# EAGLE library part MAPS-011007-TR0500 (library My_Library_RADAR)
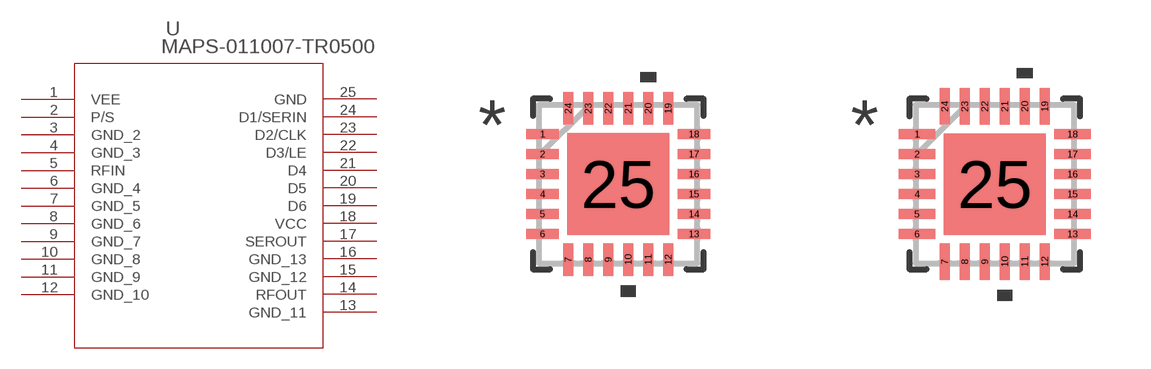
[diagram p15: symbol with the pads of PQFN24_4MM_MCM; footprints PQFN24_4MM_MCM, PQFN24_4MM_MCM-M]

Designator prefix U

## MAPS-011007-TR0500 (COPYRIGHT: Copyright (C) 2025 Ultra Librarian. All rights reserved.; MANUFACTURER_PART_NUMBER: MAPS-011007-TR0500; MFR_NAME: MACOM; TYPE: RF)  [PQFN24_4MM_MCM]
1  VEE  pwr
2  P/S  pas
3  GND_2  pas
4  GND_3  pas
5  RFIN  in
6  GND_4  pas
7  GND_5  pas
8  GND_6  pas
9  GND_7  pas
10  GND_8  pas
11  GND_9  pas
12  GND_10  pas
13  GND_11  pas
14  RFOUT  out
15  GND_12  pas
16  GND_13  pas
17  SEROUT  out
18  VCC  pwr
19  D6  pas
20  D5  pas
21  D4  pas
22  D3/LE  pas
23  D2/CLK  pas
24  D1/SERIN  pas
25  GND  pas

## MAPS-011007-TR0500PQFN24_4MM_MCM-M (COPYRIGHT: Copyright (C) 2025 Ultra Librarian. All rights reserved.; MANUFACTURER_PART_NUMBER: MAPS-011007-TR0500; MFR_NAME: MACOM; TYPE: RF)  [PQFN24_4MM_MCM-M]
Pads as for PQFN24_4MM_MCM

## MAPS-011007-TR0500PQFN24_4MM_MCM-L (COPYRIGHT: Copyright (C) 2025 Ultra Librarian. All rights reserved.; MANUFACTURER_PART_NUMBER: MAPS-011007-TR0500; MFR_NAME: MACOM; TYPE: RF)  [PQFN24_4MM_MCM-L]
Pads as for PQFN24_4MM_MCM

## Footprint PQFN24_4MM_MCM (pad centres in mm)
smd 0.813 x 0.254: 1 -1.892,1.25; 2 -1.892,0.75; 3 -1.892,0.25; 4 -1.892,-0.25; 5 -1.892,-0.75; 6 -1.892,-1.25; 13 1.892,-1.25; 14 1.892,-0.75; 15 1.892,-0.25; 16 1.892,0.25; 17 1.892,0.75; 18 1.892,1.25
smd 0.254 x 0.813: 7 -1.25,-1.892; 8 -0.75,-1.892; 9 -0.25,-1.892; 10 0.25,-1.892; 11 0.75,-1.892; 12 1.25,-1.892; 19 1.25,1.892; 20 0.75,1.892; 21 0.25,1.892; 22 -0.25,1.892; 23 -0.75,1.892; 24 -1.25,1.892
smd 2.54 x 2.54: 25 0,0

## Footprint PQFN24_4MM_MCM-M (pad centres in mm)
smd 0.914 x 0.254: 1 -1.943,1.25; 2 -1.943,0.75; 3 -1.943,0.25; 4 -1.943,-0.25; 5 -1.943,-0.75; 6 -1.943,-1.25; 13 1.943,-1.25; 14 1.943,-0.75; 15 1.943,-0.25; 16 1.943,0.25; 17 1.943,0.75; 18 1.943,1.25
smd 0.254 x 0.914: 7 -1.25,-1.943; 8 -0.75,-1.943; 9 -0.25,-1.943; 10 0.25,-1.943; 11 0.75,-1.943; 12 1.25,-1.943; 19 1.25,1.943; 20 0.75,1.943; 21 0.25,1.943; 22 -0.25,1.943; 23 -0.75,1.943; 24 -1.25,1.943
smd 2.54 x 2.54: 25 0,0

## Footprint PQFN24_4MM_MCM-L (pad centres in mm)
smd 0.711 x 0.254: 1 -1.841,1.25; 2 -1.841,0.75; 3 -1.841,0.25; 4 -1.841,-0.25; 5 -1.841,-0.75; 6 -1.841,-1.25; 13 1.841,-1.25; 14 1.841,-0.75; 15 1.841,-0.25; 16 1.841,0.25; 17 1.841,0.75; 18 1.841,1.25
smd 0.254 x 0.711: 7 -1.25,-1.841; 8 -0.75,-1.841; 9 -0.25,-1.841; 10 0.25,-1.841; 11 0.75,-1.841; 12 1.25,-1.841; 19 1.25,1.841; 20 0.75,1.841; 21 0.25,1.841; 22 -0.25,1.841; 23 -0.75,1.841; 24 -1.25,1.841
smd 2.54 x 2.54: 25 0,0